# Altium footprint library 4GMODULE.PcbLib: 36 footprints (part 1 of 3)
Each footprint in its own frame and in the unit in brackets; x right, y up, seen from the top. Pads: shape width x height; smd on the part's side, far side on the other; paste and mask are expansions set on the pad; w line width, h text height; cw(c..) or ccw(c..) is an arc to the next point about the centre after c.
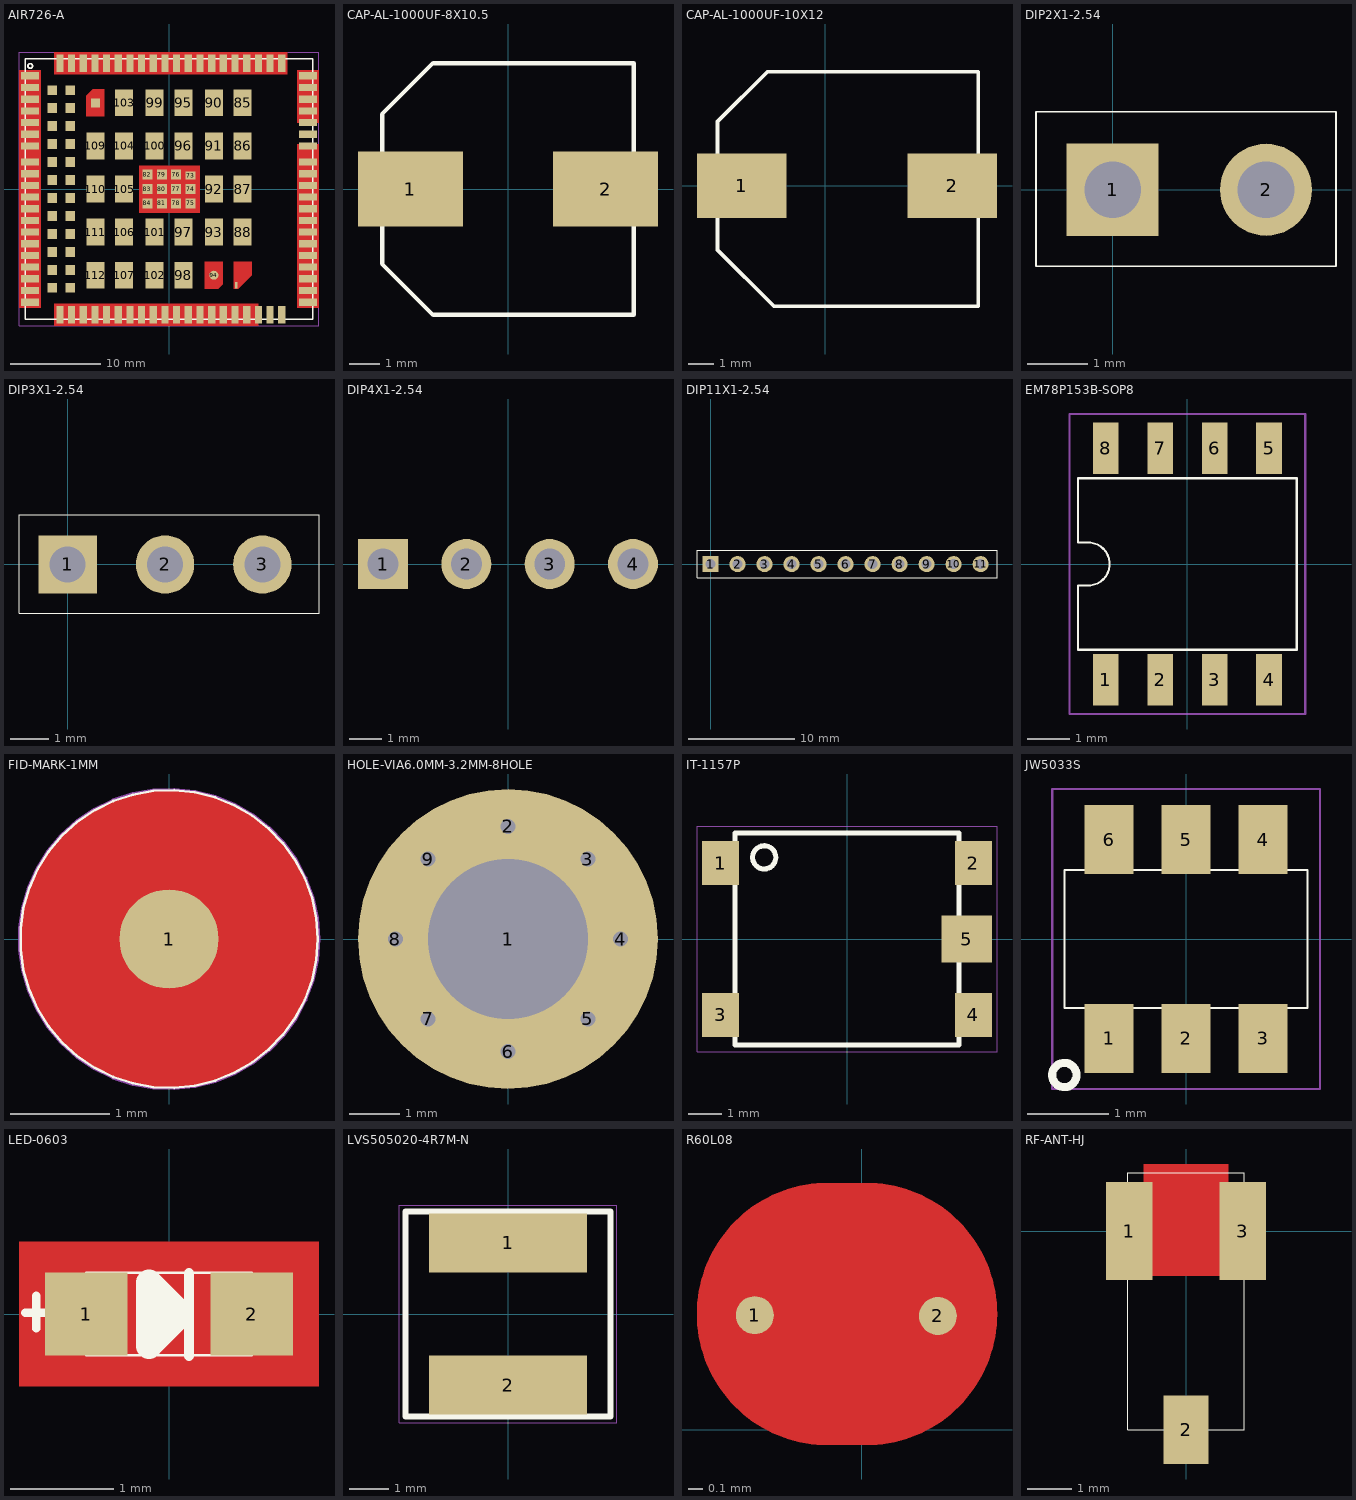
[diagram p0: the footprints below, top view; thin cyan lines are the x and y axes]

## AIR726-A [mm]
pads (144):
  rect 2x0.8 smd: 1(-15.5,12.6) 2(-15.5,11.3) 3(-15.5,10) 4(-15.5,8.7) 5(-15.5,7.4) 6(-15.5,6.1) 7(-15.5,4.8) 8(-15.5,0.4) 9(-15.5,-0.9) 10(-15.5,-2.2) 11(-15.5,-3.5) 12(-15.5,-4.8) 13(-15.5,-6.1) 14(-15.5,-7.4) 15(-15.5,-8.7) 16(-15.5,-10) 17(-15.5,-11.3) 18(-15.5,-12.6) 37(15.5,-12.6) 38(15.5,-11.3) 39(15.5,-10) 40(15.5,-8.7) 41(15.5,-7.4) 42(15.5,-6.1) 43(15.5,-4.8) 44(15.5,-3.5) 45(15.5,-2.2) 46(15.5,-0.9) 47(15.5,0.4) 48(15.5,4.8) 49(15.5,6.1) 50(15.5,7.4) 51(15.5,8.7) 52(15.5,10) 53(15.5,11.3) 54(15.5,12.6) 141(-15.5,3) 142(-15.5,1.7) 143(15.5,1.7) 144(15.5,3)
  rect 0.8x2 smd: 19(-9.55,-14) 20(-8.25,-14) 21(-6.95,-14) 22(-5.65,-14) 23(-4.35,-14) 24(-3.05,-14) 25(-1.75,-14) 26(-0.45,-14) 27(0.85,-14) 28(2.15,-14) 29(3.45,-14) 30(4.75,-14) 31(6.05,-14) 32(7.35,-14) 33(8.65,-14) 34(9.95,-14) 35(11.25,-14) 36(12.55,-14) 55(12.55,14) 56(11.25,14) 57(9.95,14) 58(8.65,14) 59(7.35,14) 60(6.05,14) 61(4.75,14) 62(3.45,14) 63(2.15,14) 64(0.85,14) 65(-0.45,14) 66(-1.75,14) 67(-3.05,14) 68(-4.35,14) 69(-5.65,14) 70(-6.95,14) 71(-8.25,14) 72(-9.55,14) 113(-10.85,14) 114(-12.15,14) 115(-10.85,-14) 116(-12.15,-14)
  rect 1.1x0.9 smd: 73(2.4,1.5)
  rect 1.1x1.1 smd: 74(2.4,0) 75(2.4,-1.6) 76(0.8,1.6) 77(0.8,0) 78(0.8,-1.6) 79(-0.8,1.6) 80(-0.8,0) 81(-0.8,-1.6) 82(-2.4,1.6) 83(-2.4,0) 84(-2.4,-1.6) 117(-11,11) 118(-11,9) 119(-11,7) 120(-11,5) 121(-11,3) 122(-11,1) 123(-11,-1) 124(-11,-3) 125(-11,-5) 126(-11,-7) 127(-11,-9) 128(-11,-11) 129(-13,11) 130(-13,9) 131(-13,7) 132(-13,5) 133(-13,3) 134(-13,1) 135(-13,-1) 136(-13,-3) 137(-13,-5) 138(-13,-7) 139(-13,-9) 140(-13,-11)
  rect 2x3 smd: 85(8.2,9.6) 86(8.2,4.8) 87(8.2,0) 88(8.2,-4.8) 90(5,9.6) 91(5,4.8) 92(5,0) 93(5,-4.8) 95(1.6,9.6) 96(1.6,4.8) 97(1.6,-4.8) 98(1.6,-9.6) 99(-1.6,9.6) 100(-1.6,4.8) 101(-1.6,-4.8) 102(-1.6,-9.6) 103(-5,9.6) 104(-5,4.8) 105(-5,0) 106(-5,-4.8) 107(-5,-9.6) 109(-8.2,4.8) 110(-8.2,0) 111(-8.2,-4.8) 112(-8.2,-9.6)
  rect 0.3x0.7 smd: 89(7.5,-10.7)
  round 1 smd: 94(5,-9.6)
  rect 1x1 smd: 108(-8.2,9.6)
Top Layer:
  region: 7.2,-8.1 9.2,-8.1 9.2,-9.6 7.7,-11.1 7.2,-11.1
  region: 4,-8.1 6,-8.1 6,-10.6 5.5,-11.1 4,-11.1
  region: -8.5,11.1 -9.2,10.4 -9.2,8.1 -7.2,8.1 -7.2,11.1
  pour cut-out: -12.8,15.2 13.15,15.2 13.15,12.8 -12.8,12.8
  pour cut-out: 14.3,5 16.7,5 16.7,-13.2 14.3,-13.2
  pour cut-out: 9.95,-15.2 -12.8,-15.2 -12.8,-12.8 9.95,-12.8
  pour cut-out: -14.3,-13.2 -16.7,-13.2 -16.7,13.2 -14.3,13.2
  pour cut-out: -3.3,2.6 3.45,2.6 3.45,-2.65 -3.3,-2.65
  pour cut-out: 14.3,13.2 16.7,13.2 16.7,7.4 14.3,7.4
Top Overlay:
  circle w0.2: c-15.45,13.7 r0.255
  lines w0.15: -16,-14.5 16,-14.5 16,14.5 -16,14.5 -16,-14.5
Top Paste:
  drawing of 144 lines, arcs and shapes, not listed
Mechanical 1:
  lines w0.01: -16.7,-15.2 16.7,-15.2 16.7,15.2 -16.7,15.2 -16.7,-15.2

## CAP-AL-1000UF-8X10.5 [mm]
pads (2):
  rect 3.5x2.5 smd: 1(-3.25,0) 2(3.25,0)
Top Overlay:
  lines w0.15: -4.2,-2.5 -4.2,2.5 -2.5,4.2 4.2,4.2 4.2,-4.2 -2.5,-4.2 -4.2,-2.5

## CAP-AL-1000UF-10X12 [mm]
pads (2):
  rect 3.5x2.5 smd: 1(-3.25,0) 2(4.953,0)
Top Overlay:
  lines w0.15: -4.2,-2.5 -4.2,2.5 -2.255,4.445 5.969,4.445 5.969,-4.699 -2.001,-4.699 -4.2,-2.5

## DIP2X1-2.54 [mil]
pads (2):
  rect 60x60 hole 37: 1(0,0)
  round 60 hole 37: 2(100,0)
Top Overlay:
  lines w1: -50,-50 -50,50.98 145.63,50.98 145.63,-50 -50,-50

## DIP3X1-2.54 [mil]
pads (3):
  rect 60x60 hole 37: 1(0,0)
  round 60 hole 37: 2(100,0) 3(200,0)
Top Overlay:
  lines w1: -50,-50 258.14,-50 258.14,50.98 -50,50.98 -50,-50

## DIP4X1-2.54 [mil]
pads (4):
  rect 60x60 hole 37: 1(-150,0)
  round 60 hole 37: 2(-50,0) 3(50,0) 4(150,0)

## DIP11X1-2.54 [mil]
pads (11):
  rect 60x60 hole 37: 1(0,0)
  round 60 hole 37: 2(100,0) 3(200,0) 4(300,0) 5(400,0) 6(500,0) 7(600,0) 8(700,0) 9(800,0) 10(900,0) 11(1000,0)
Top Overlay:
  lines w1: -50,-50 -50,50.98 1060.63,50.98 1060.63,-50 -50,-50

## EM78P153B-SOP8 [mm]
pads (8):
  rect 0.6x1.2 smd: 1(-1.905,-2.7) 2(-0.635,-2.7) 3(0.635,-2.7) 4(1.905,-2.7) 5(1.905,2.7) 6(0.635,2.7) 7(-0.635,2.7) 8(-1.905,2.7)
Top Overlay:
  lines w0.05: -2.55,-2 -2.55,-0.5 -2.35,-0.5 ccw(c-2.316,0) -2.35,0.5 -2.55,0.5 -2.55,2 2.55,2 2.55,-2 -2.55,-2
Mechanical 1:
  lines w0.05: -2.75,-3.5 -2.75,3.5 2.75,3.5 2.75,-3.5 -2.75,-3.5

## FID-MARK-1MM [mm]
pads (1):
  round 1 smd: 1(0,0)
Top Layer:
  pour cut-out: 185 vertices and 0 holes, not listed, extent -1.5,-1.5 1.5,1.5
  pour cut-out: 185 vertices and 0 holes, not listed, extent -1.5,-1.5 1.5,1.5
Top Overlay:
  circle w0.025: c0,0 r1.5
Top Solder:
  drawing of 1 lines, arcs and shapes, not listed
Mechanical 1:
  circle w0.025: c0,0 r1.512

## HOLE-VIA6.0MM-3.2MM-8HOLE [mm]
pads (9):
  round 6 / inner round 4 / far side round 6 hole 3.2: 1(0,0)
  round 0.6 hole 0.3: 2(0,2.25) 3(1.6,1.6) 4(2.25,0) 5(1.6,-1.6) 6(0,-2.25) 7(-1.6,-1.6) 8(-2.25,0) 9(-1.6,1.6)

## IT-1157P [mm]
pads (5):
  rect 1.1x1.3 smd: 1(-3.75,2.25) 2(3.75,2.25) 3(-3.75,-2.25) 4(3.75,-2.25)
  rect 1.5x1.4 smd: 5(3.55,0)
Top Overlay:
  circle w0.15: c-2.456,2.421 r0.346
  lines w0.15: -3.325,-3.15 3.325,-3.15 3.325,3.15 -3.325,3.15 -3.325,-3.15
Mechanical 1:
  lines w0.01: -4.45,-3.35 4.45,-3.35 4.45,3.35 -4.45,3.35 -4.45,-3.35

## JW5033S [mm]
pads (6):
  rect 0.6x0.85 smd: 1(-0.95,-1.225) 2(0,-1.225) 3(0.95,-1.225) 4(0.95,1.225) 5(0,1.225) 6(-0.95,1.225)
Top Overlay:
  circle w0.025: c-1.501,-1.678 r0.15
  circle w0.1: c-1.501,-1.678 r0.15
  lines w0.025: -1.5,-0.85 -1.5,0.85 1.5,0.85 1.5,-0.85 -1.5,-0.85
Mechanical 1:
  lines w0.025: -1.65,-1.85 -1.65,1.85 1.65,1.85 1.65,-1.85 -1.65,-1.85

## LED-0603 [mm]
pads (2):
  rect 0.8x0.8 smd: 1(-0.8,0) 2(0.8,0)
Top Layer:
  pour cut-out: -1.45,0.7 1.45,0.7 1.45,-0.7 -1.45,-0.7
Top Overlay:
  lines w0.025: 0.179,-0.012 -0.195,-0.386 -0.195,0.39 0.186,0.009 ; 0.194,-0.403 0.194,0.397 ; -0.8,-0.4 -0.8,0.4 0.8,0.4 0.8,-0.4 -0.8,-0.4
  lines w0.08: -1.39,0.011 -1.175,0.011 ; -1.284,-0.14 -1.284,0.177
  lines w0.1: 0.194,-0.405 0.194,0.395
  lines w0.25: 0.084,0.027 -0.195,0.306 -0.195,-0.308 0.09,-0.023
Mechanical 1:
  lines w0.025: -1.4,-0.55 1.4,-0.55 1.4,0.55 -1.4,0.55 -1.4,-0.55

## LVS505020-4R7M-N [mm]
pads (2):
  rect 4x1.5 smd: 1(0,1.8) 2(0,-1.8)
Top Overlay:
  lines w0.15: -2.6,-2.6 2.6,-2.6 2.6,2.6 -2.6,2.6 -2.6,-2.6
Mechanical 1:
  lines w0.025: -2.75,-2.75 2.75,-2.75 2.75,2.75 -2.75,2.75 -2.75,-2.75

## R60L08 [mil]
pads (2):
  round 10 smd: 1(-28.22,30.19) 2(20,30)
Top Layer:
  pour cut-out: -11.81,64.96 3.94,64.97 4,64.96 5.5,64.8 6.99,64.57 8.47,64.28 9.94,63.92 11.38,63.49 12.81,63.01 14.22,62.46 15.6,61.85 16.95,61.19 18.28,60.46 19.57,59.68 20.82,58.84 22.04,57.95 23.21,57 24.35,56.01 25.44,54.97 26.48,53.88 27.48,52.74 28.42,51.56 29.31,50.35 30.15,49.09 30.93,47.8 31.66,46.48 32.33,45.13 32.94,43.75 33.48,42.34 33.97,40.91 34.39,39.46 34.75,38 35.04,36.52 35.27,35.03 35.44,33.53 35.53,32.02 35.57,30.51 35.53,29 35.44,27.5 35.27,26 35.04,24.51 34.75,23.03 34.39,21.56 33.97,20.11 33.48,18.68 32.94,17.28 32.33,15.9 31.66,14.54 30.93,13.22 30.15,11.93 29.31,10.68 28.42,9.46 27.48,8.28 26.48,7.15 25.44,6.06 24.35,5.01 23.21,4.02 22.04,3.08 20.82,2.18 19.57,1.34 18.28,0.56 16.95,-0.16 15.6,-0.83 14.22,-1.44 12.81,-1.99 11.38,-2.47 9.94,-2.89 8.47,-3.25 6.99,-3.55 5.5,-3.78 4,-3.94 3.94,-3.94 -11.81,-3.94 -11.87,-3.94 -13.37,-3.78 -14.86,-3.55 -16.34,-3.25 -17.81,-2.89 -19.26,-2.47 -20.69,-1.99 -22.09,-1.44 -23.47,-0.83 -24.83,-0.16 -26.15,0.56 -27.44,1.34 -28.69,2.18 -29.91,3.08 -31.09,4.02 -32.22,5.01 -33.31,6.06 -34.36,7.15 -35.35,8.28 -36.3,9.46 -37.19,10.68 -38.03,11.93 -38.81,13.22 -39.53,14.54 -40.2,15.9 -40.81,17.28 -41.36,18.68 -41.84,20.11 -42.26,21.56 -42.62,23.03 -42.92,24.51 -43.15,26 -43.31,27.5 -43.41,29 -43.44,30.51 -43.41,32.02 -43.31,33.53 -43.15,35.03 -42.92,36.52 -42.62,38 -42.26,39.46 -41.84,40.91 -41.36,42.34 -40.81,43.75 -40.2,45.13 -39.53,46.48 -38.81,47.8 -38.03,49.09 -37.19,50.35 -36.3,51.56 -35.35,52.74 -34.36,53.88 -33.31,54.97 -32.22,56.01 -31.09,57 -29.91,57.95 -28.69,58.84 -27.44,59.68 -26.15,60.46 -24.83,61.19 -23.47,61.85 -22.09,62.46 -20.69,63.01 -19.26,63.49 -17.81,63.92 -16.34,64.28 -14.86,64.57 -13.37,64.8 -11.87,64.96 -11.81,64.97
  region: 0,60.01 1.39,59.98 2.77,59.88 4.15,59.72 5.51,59.5 6.87,59.21 8.21,58.86 9.54,58.45 10.84,57.98 12.12,57.45 13.38,56.86 14.6,56.22 15.8,55.51 16.96,54.76 18.08,53.95 19.17,53.09 20.22,52.18 21.22,51.22 22.18,50.22 23.09,49.17 23.95,48.08 24.76,46.96 25.51,45.8 26.22,44.6 26.86,43.38 27.45,42.12 27.98,40.84 28.45,39.54 28.86,38.21 29.21,36.87 29.5,35.51 29.72,34.15 29.88,32.77 29.98,31.39 30.01,30 29.98,28.61 29.88,27.23 29.72,25.85 29.5,24.49 29.21,23.13 28.86,21.79 28.45,20.46 27.98,19.16 27.45,17.88 26.86,16.62 26.22,15.4 25.51,14.2 24.76,13.04 23.95,11.92 23.09,10.83 22.18,9.78 21.22,8.78 20.22,7.82 19.17,6.91 18.08,6.05 16.96,5.24 15.8,4.49 14.6,3.78 13.38,3.14 12.12,2.55 10.84,2.02 9.54,1.55 8.21,1.14 6.87,0.79 5.51,0.5 4.15,0.28 2.77,0.12 1.39,0.02 0,-0.01 0,0
  region: -8.22,0.18 -9.61,0.21 -10.99,0.31 -12.37,0.47 -13.73,0.69 -15.09,0.98 -16.43,1.33 -17.76,1.74 -19.06,2.21 -20.34,2.74 -21.6,3.33 -22.82,3.97 -24.02,4.68 -25.18,5.43 -26.3,6.24 -27.39,7.1 -28.44,8.01 -29.44,8.97 -30.4,9.97 -31.31,11.02 -32.17,12.11 -32.98,13.23 -33.73,14.39 -34.44,15.59 -35.08,16.81 -35.67,18.07 -36.2,19.35 -36.67,20.65 -37.08,21.98 -37.43,23.32 -37.72,24.68 -37.94,26.04 -38.1,27.42 -38.2,28.8 -38.23,30.19 -38.2,31.58 -38.1,32.96 -37.94,34.34 -37.72,35.7 -37.43,37.06 -37.08,38.4 -36.67,39.73 -36.2,41.03 -35.67,42.31 -35.08,43.57 -34.44,44.79 -33.73,45.99 -32.98,47.15 -32.17,48.27 -31.31,49.36 -30.4,50.41 -29.44,51.41 -28.44,52.37 -27.39,53.28 -26.3,54.14 -25.18,54.95 -24.02,55.7 -22.82,56.41 -21.6,57.05 -20.34,57.64 -19.06,58.17 -17.76,58.64 -16.43,59.05 -15.09,59.4 -13.73,59.69 -12.37,59.91 -10.99,60.07 -9.61,60.17 -8.22,60.2 -8.22,60.19
Top Solder:
  region: -11.81,64.96 3.94,64.96 4.67,64.88 6.16,64.65 7.64,64.36 9.11,64 10.56,63.57 12,63.09 13.41,62.54 14.79,61.93 16.15,61.26 17.47,60.53 18.77,59.75 20.02,58.91 21.24,58.01 22.42,57.07 23.56,56.07 24.65,55.02 25.7,53.93 26.7,52.79 27.64,51.61 28.54,50.4 29.38,49.14 30.16,47.84 30.89,46.52 31.56,45.16 32.17,43.78 32.72,42.37 33.2,40.94 33.62,39.48 33.98,38.01 34.28,36.53 34.51,35.04 34.67,33.53 34.77,32.02 34.81,30.51 34.77,29 34.67,27.49 34.51,25.99 34.28,24.49 33.98,23.01 33.62,21.54 33.2,20.09 32.72,18.66 32.17,17.25 31.56,15.86 30.89,14.51 30.16,13.18 29.38,11.89 28.54,10.63 27.64,9.41 26.7,8.23 25.7,7.09 24.65,6 23.56,4.95 22.42,3.96 21.24,3.01 20.02,2.12 18.77,1.28 17.47,0.49 16.15,-0.24 14.79,-0.91 13.41,-1.51 12,-2.06 10.56,-2.55 9.11,-2.97 7.64,-3.33 6.16,-3.63 4.67,-3.86 3.94,-3.94 -11.81,-3.94 -13.07,-3.75 -14.56,-3.45 -16.03,-3.09 -17.49,-2.67 -18.93,-2.18 -20.34,-1.63 -21.73,-1.02 -23.09,-0.34 -24.42,0.39 -25.72,1.17 -26.98,2.02 -28.21,2.91 -29.39,3.86 -30.53,4.86 -31.63,5.91 -32.68,7.01 -33.68,8.15 -34.63,9.33 -35.53,10.56 -36.37,11.82 -37.16,13.12 -37.89,14.45 -38.56,15.81 -39.17,17.2 -39.72,18.61 -40.21,20.05 -40.63,21.51 -40.99,22.98 -41.29,24.47 -41.52,25.97 -41.69,27.48 -41.78,28.99 -41.82,30.51 -41.78,32.03 -41.69,33.54 -41.52,35.05 -41.29,36.55 -40.99,38.04 -40.63,39.52 -40.21,40.97 -39.72,42.41 -39.17,43.82 -38.56,45.21 -37.89,46.57 -37.16,47.91 -36.37,49.2 -35.53,50.47 -34.63,51.69 -33.68,52.87 -32.68,54.01 -31.63,55.11 -30.53,56.16 -29.39,57.16 -28.21,58.11 -26.98,59.01 -25.72,59.85 -24.42,60.64 -23.09,61.37 -21.73,62.04 -20.34,62.65 -18.93,63.2 -17.49,63.69 -16.03,64.11 -14.56,64.47 -13.07,64.77 -11.81,64.96

## RF-ANT-HJ [mm]
pads (3):
  rect 1.05x2.2 smd: 1(-1.27,0) 3(1.27,0)
  rect 1x1.533 smd: 2(0,-4.445)
Top Layer:
  pour cut-out: -0.95,1.5 0.95,1.5 0.95,-1.003 -0.95,-1.003
Top Overlay:
  lines w0.025: -1.3,-4.445 -1.3,1.3 1.3,1.3 1.3,-4.445 -1.3,-4.445